# EAGLE library part MAX2042A (library MAX2042)
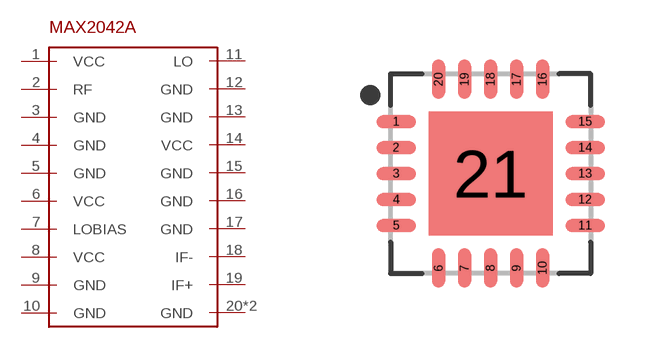
[diagram p0: symbol with the pads of QFN65P500X500X80-21T310; footprint QFN65P500X500X80-21T310]

Designator prefix -

## MAX2042AT2055  [QFN65P500X500X80-21T310]
1  VCC
2  RF
3  GND
4  GND
5  GND
6  VCC
7  LOBIAS
8  VCC
9  GND
10  GND
11  LO
12  GND
13  GND
14  VCC
15  GND
16  GND
17  GND
18  IF-
19  IF+
20  GND
21  GND

## Footprint QFN65P500X500X80-21T310 (pad centres in mm)
20-QFN, 0.65 mm pitch, 5.00 X 5.00 X 0.80 mm body, 3.10 X 3.10 mm thermal pad 20-pin QFN package with 0.65 mm pitch with body size 5.00 X 5.00 X 0.80 mm and thermal pad size 3.10 X 3.10 mm
smd 0.987 x 0.32: 1 -2.362,1.3; 2 -2.362,0.65; 3 -2.362,0; 4 -2.362,-0.65; 5 -2.362,-1.3; 11 2.362,-1.3; 12 2.362,-0.65; 13 2.362,0; 14 2.362,0.65; 15 2.362,1.3
smd 0.32 x 0.987: 6 -1.3,-2.362; 7 -0.65,-2.362; 8 0,-2.362; 9 0.65,-2.362; 10 1.3,-2.362; 16 1.3,2.362; 17 0.65,2.362; 18 0,2.362; 19 -0.65,2.362; 20 -1.3,2.362
smd 3.1 x 3.1: 21 0,0